# Altium schematic symbol library MAX22501EATA+.SchLib: 1 symbol
Pins are listed as number, name and electrical type; pins without a type are passive.

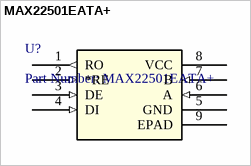
[diagram p0: symbol MAX22501EATA+]

## MAX22501EATA+
designator U?, comment Part Number: MAX22501EATA+
IC TXRX RS485/422 ESD TDFN8; Manufacturer 1: Maxim; Vendor: Maxim Integrated Products; Built_By: EMA_UL_Team; Manufacturer_Part_Number: MAX22501EATA+; Copyright: Copyright (C) 2018 Accelerated Designs. All rights reserved; RefDes: RefDes; Type: DEV; Value: Value; Supplier 1: Digi-Key; Manufacturer Part Number 1: MAX22501EATA+; Stock 1: 79; Pricing 1: 1=2.70000, 10=2.42900, 25=2.29600, 100=1.99000, 300=1.88793, 500=1.88400 (USD); RoHS: No; ComponentLink1URL: http://www.farnell.com/datasheets/2363786.pdf?src-supplier=Farnell; ComponentLink1Description: http://www.farnell.com/datasheets/2363786.pdf?src-supplier=Farnell; ComponentLink2URL: https://datasheets.maximintegrated.com/en/ds/MAX22500E-MAX22501E.pdf?src-supplier=Digi-Key; ComponentLink2Description: https://datasheets.maximintegrated.com/en/ds/MAX22500E-MAX22501E.pdf?src-supplier=Digi-Key
footprint MAX22501EATA+
pins: 1 RO (out), 2 *RE (in), 3 DE (in), 4 DI (in), 5 GND (power), 6 A (in), 7 B (in), 8 VCC (power), 9 EPAD